# Altium integrated library Res-SMD_V2.IntLib: 2369 symbols (part 6 of 18)
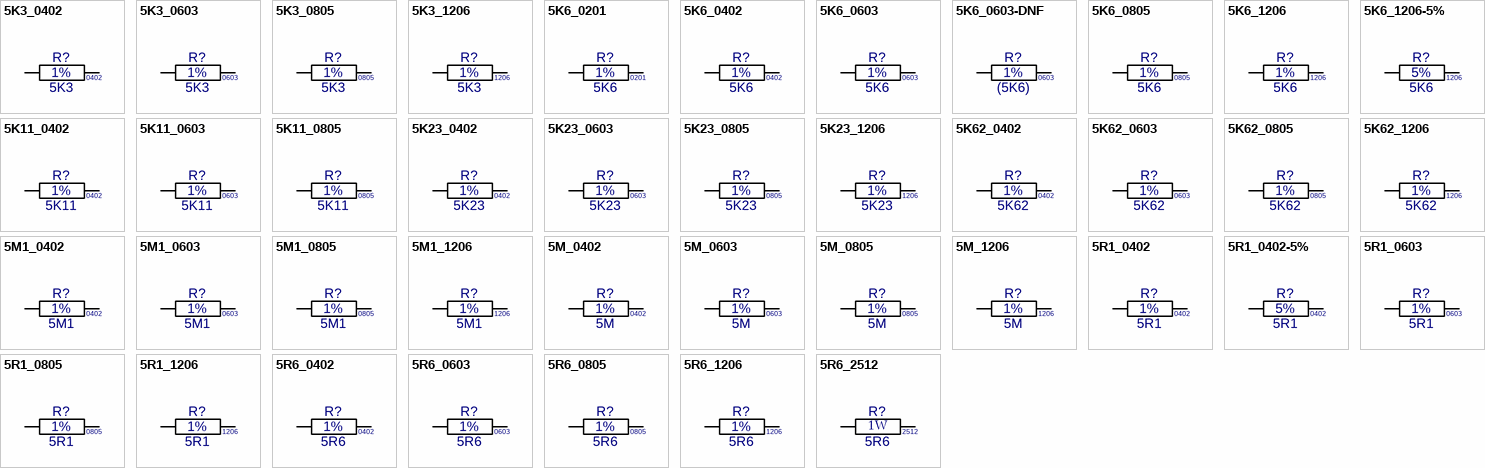
[diagram p64: symbols 5K3_0402 to 5R6_2512]

## 5M_0805
designator R?, comment value 5M  Tol: 1%  Text1: 0805  (hidden comment: 5M_R0805_1%)
Resistor Chip SMD; Manufacturer: Various; Part Number: 5M 0805 1%; Watt: 125mW; Package: RESC0805X65N; EDM-PN: *; Text2: *; Reutech PN: *; SAAB PN: *; DCE Part No: *
footprint RESC0805X65N (Chip Resistor, 0805, 2-Leads, Body 2.0x1.3mm, IPC Medium Density)
pins: 1, 2

## 5M_1206
designator R?, comment value 5M  Tol: 1%  Text1: 1206  (hidden comment: 5M_R1206_1%)
Resistor Chip SMD; Manufacturer: Various; Part Number: 5M 1206 1%; Watt: 250mW; Package: RESC1206X71N; EDM-PN: *; Text2: *; Reutech PN: *; SAAB PN: *; DCE Part No: *
footprint RESC1206X71N (Chip Resistor, 1206, 2-Leads, Body 3.2x1.6mm, IPC Medium Density)
pins: 1, 2

## 5R1_0402
designator R?, comment value 5R1  Tol: 1%  Text1: 0402  (hidden comment: 5R1_R0402_1%)
Resistor Chip SMD; Manufacturer: Various; Part Number: 5R1 0402 1%; Watt: 63mW; Package: RESC0402X40N; EDM-PN: *; Text2: *; Reutech PN: *; SAAB PN: *; DCE Part No: *
footprint RESC0402X40N (Chip Resistor, 0402, 2-Leads, Body 1.1x0.5mm, IPC Medium Density)
pins: 1, 2

## 5R1_0402-5%
designator R?, comment value 5R1  Tol: 5%  Text1: 0402  (hidden comment: 5R1_R0402_5%)
Resistor Chip SMD; Manufacturer: Various; Part Number: 5R1 0402 5%; Watt: 63mW; Package: RESC0402X40N; EDM-PN: *; Text2: *; Reutech PN: *; SAAB PN: *; DCE Part No: *
footprint RESC0402X40N (Chip Resistor, 0402, 2-Leads, Body 1.1x0.5mm, IPC Medium Density)
pins: 1, 2

## 5R1_0603
designator R?, comment value 5R1  Tol: 1%  Text1: 0603  (hidden comment: 5R1_R0603_1%)
Resistor Chip SMD; Manufacturer: Various; Part Number: 5R1 0603 1%; Watt: 100mW; Package: RESC0603X60N; EDM-PN: *; Text2: *; Reutech PN: *; SAAB PN: *; DCE Part No: *
footprint RESC0603X60N (Chip Resistor, 0603, 2-Leads, Body 1.6x0.8mm, IPC Medium Density)
pins: 1, 2

## 5R1_0805
designator R?, comment value 5R1  Tol: 1%  Text1: 0805  (hidden comment: 5R1_R0805_1%)
Resistor Chip SMD; Manufacturer: Various; Part Number: 5R1 0805 1%; Watt: 125mW; Package: RESC0805X65N; EDM-PN: *; Text2: *; Reutech PN: *; SAAB PN: *; DCE Part No: *
footprint RESC0805X65N (Chip Resistor, 0805, 2-Leads, Body 2.0x1.3mm, IPC Medium Density)
pins: 1, 2

## 5R1_1206
designator R?, comment value 5R1  Tol: 1%  Text1: 1206  (hidden comment: 5R1_R1206_1%)
Resistor Chip SMD; Manufacturer: Various; Part Number: 5R1 1206 1%; Watt: 250mW; Package: RESC1206X71N; EDM-PN: *; Text2: *; Reutech PN: *; SAAB PN: *; DCE Part No: *
footprint RESC1206X71N (Chip Resistor, 1206, 2-Leads, Body 3.2x1.6mm, IPC Medium Density)
pins: 1, 2

## 5R6_0402
designator R?, comment value 5R6  Tol: 1%  Text1: 0402  (hidden comment: 5R6_R0402_1%)
Resistor Chip SMD; Manufacturer: Various; Part Number: 5R6 0402 1%; Watt: 63mW; Package: RESC0402X40N; EDM-PN: *; Text2: *; Reutech PN: *; SAAB PN: *; DCE Part No: *
footprint RESC0402X40N (Chip Resistor, 0402, 2-Leads, Body 1.1x0.5mm, IPC Medium Density)
pins: 1, 2

## 5R6_0603
designator R?, comment value 5R6  Tol: 1%  Text1: 0603  (hidden comment: 5R6_R0603_1%)
Resistor Chip SMD; Manufacturer: Various; Part Number: 5R6 0603 1%; Watt: 100mW; Package: RESC0603X60N; EDM-PN: *; Text2: *; Reutech PN: *; SAAB PN: *; DCE Part No: *
footprint RESC0603X60N (Chip Resistor, 0603, 2-Leads, Body 1.6x0.8mm, IPC Medium Density)
pins: 1, 2

## 5R6_0805
designator R?, comment value 5R6  Tol: 1%  Text1: 0805  (hidden comment: 5R6_R0805_1%)
Resistor Chip SMD; Manufacturer: Various; Part Number: 5R6 0805 1%; Watt: 125mW; Package: RESC0805X65N; EDM-PN: *; Text2: *; Reutech PN: *; SAAB PN: *; DCE Part No: *
footprint RESC0805X65N (Chip Resistor, 0805, 2-Leads, Body 2.0x1.3mm, IPC Medium Density)
pins: 1, 2

## 5R6_1206
designator R?, comment value 5R6  Tol: 1%  Text1: 1206  (hidden comment: 5R6_R1206_1%)
Resistor Chip SMD; Manufacturer: Various; Part Number: 5R6 1206 1%; Watt: 250mW; Package: RESC1206X71N; EDM-PN: *; Text2: *; Reutech PN: *; SAAB PN: *; DCE Part No: *
footprint RESC1206X71N (Chip Resistor, 1206, 2-Leads, Body 3.2x1.6mm, IPC Medium Density)
pins: 1, 2

## 5R6_2512
designator R?, comment value 5R6  Watt: 1W  Text1: 2512  (hidden comment: 5R6_R2512_1%)
Resistor Chip SMD; Manufacturer: Various; Part Number: 5R6 2512 1%; EDM-PN: RES1077; Tol: 1%; Package: RESC2512X71N; Text2: *; Reutech PN: *; SAAB PN: *; DCE Part No: *
footprint RESC2512X71N (Chip Resistor, 2512, 2-Leads, Body 6.3x3.2mm, IPC Medium Density)
pins: 1, 2

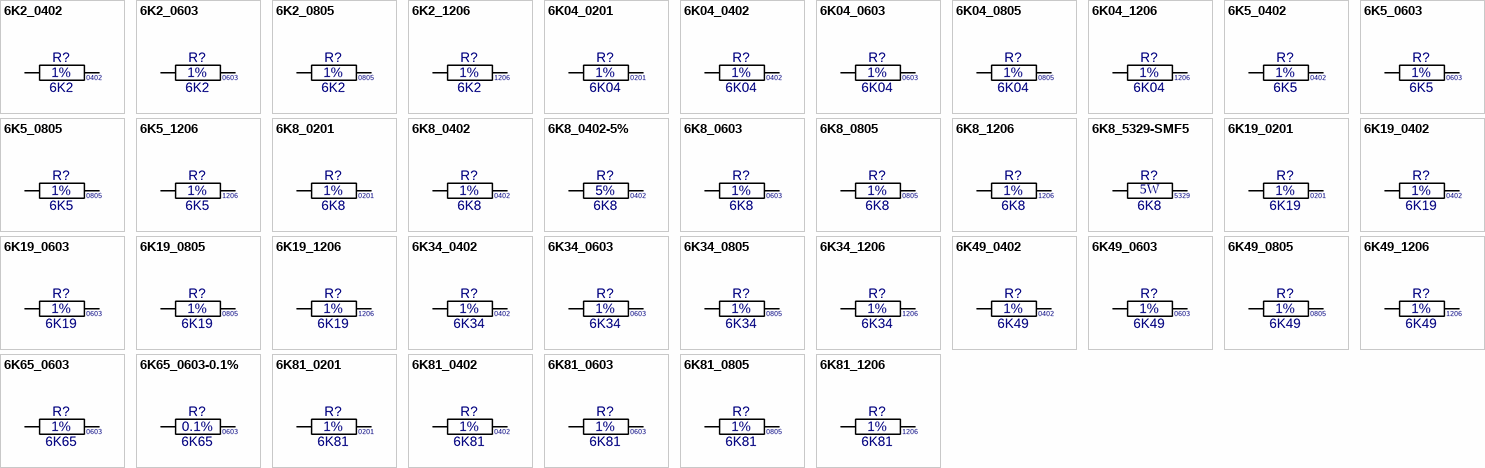
[diagram p17: symbols 6K2_0402 to 6K81_1206]

## 6K2_0402
designator R?, comment value 6K2  Tol: 1%  Text1: 0402  (hidden comment: 6K2_R0402_1%)
Resistor Chip SMD; Manufacturer: Various; Part Number: 6K2 0402 1%; Watt: 63mW; EDM-PN: RES1496; Package: RESC0402X40N; Text2: *; Reutech PN: *; SAAB PN: *; DCE Part No: *
footprint RESC0402X40N (Chip Resistor, 0402, 2-Leads, Body 1.1x0.5mm, IPC Medium Density)
pins: 1, 2

## 6K2_0603
designator R?, comment value 6K2  Tol: 1%  Text1: 0603  (hidden comment: 6K2_R0603_1%)
Resistor Chip SMD; Manufacturer: Various; Part Number: 6K2 0603 1%; Watt: 100mW; EDM-PN: RES601; Package: RESC0603X60N; Text2: *; Reutech PN: 5905-93-6201; SAAB PN: *; DCE Part No: *
footprint RESC0603X60N (Chip Resistor, 0603, 2-Leads, Body 1.6x0.8mm, IPC Medium Density)
pins: 1, 2

## 6K2_0805
designator R?, comment value 6K2  Tol: 1%  Text1: 0805  (hidden comment: 6K2_R0805_1%)
Resistor Chip SMD; Manufacturer: Various; Part Number: 6K2 0805 1%; Watt: 125mW; EDM-PN: RES821; Package: RESC0805X65N; Text2: *; Reutech PN: *; SAAB PN: *; DCE Part No: *
footprint RESC0805X65N (Chip Resistor, 0805, 2-Leads, Body 2.0x1.3mm, IPC Medium Density)
pins: 1, 2

## 6K2_1206
designator R?, comment value 6K2  Tol: 1%  Text1: 1206  (hidden comment: 6K2_R1206_1%)
Resistor Chip SMD; Manufacturer: Various; Part Number: 6K2 1206 1%; Watt: 250mW; Package: RESC1206X71N; EDM-PN: *; Text2: *; Reutech PN: 5905-97-6201; SAAB PN: *; DCE Part No: *
footprint RESC1206X71N (Chip Resistor, 1206, 2-Leads, Body 3.2x1.6mm, IPC Medium Density)
pins: 1, 2

## 6K04_0201
designator R?, comment value 6K04  Tol: 1%  Text1: 0201  (hidden comment: 6K04_R0201_1%)
Resistor Chip SMD; Manufacturer: Various; Part Number: 6K04 0201 1%; Watt: 31mW; Package: RESC0201X33N; EDM-PN: *; Text2: *; Reutech PN: *; SAAB PN: *; DCE Part No: *
footprint RESC0201X33N (Chip Resistor, 0201, 2-Leads, Body 0.6x0.3mm, IPC Medium Density)
pins: 1, 2

## 6K04_0402
designator R?, comment value 6K04  Tol: 1%  Text1: 0402  (hidden comment: 6K04_R0402_1%)
Resistor Chip SMD; Manufacturer: Various; Part Number: 6K04 0402 1%; Watt: 63mW; EDM-PN: RES1429; Package: RESC0402X40N; Text2: *; Reutech PN: *; SAAB PN: *; DCE Part No: *
footprint RESC0402X40N (Chip Resistor, 0402, 2-Leads, Body 1.1x0.5mm, IPC Medium Density)
pins: 1, 2

## 6K04_0603
designator R?, comment value 6K04  Tol: 1%  Text1: 0603  (hidden comment: 6K04_R0603_1%)
Resistor Chip SMD; Manufacturer: Various; Part Number: 6K04 0603 1%; Watt: 100mW; EDM-PN: RES1400; Package: RESC0603X60N; Text2: *; Reutech PN: *; SAAB PN: *; DCE Part No: *
footprint RESC0603X60N (Chip Resistor, 0603, 2-Leads, Body 1.6x0.8mm, IPC Medium Density)
pins: 1, 2

## 6K04_0805
designator R?, comment value 6K04  Tol: 1%  Text1: 0805  (hidden comment: 6K04_R0805_1%)
Resistor Chip SMD; Manufacturer: Various; Part Number: 6K04 0805 1%; Watt: 125mW; Package: RESC0805X65N; EDM-PN: *; Text2: *; Reutech PN: *; SAAB PN: *; DCE Part No: *
footprint RESC0805X65N (Chip Resistor, 0805, 2-Leads, Body 2.0x1.3mm, IPC Medium Density)
pins: 1, 2

## 6K04_1206
designator R?, comment value 6K04  Tol: 1%  Text1: 1206  (hidden comment: 6K04_R1206_1%)
Resistor Chip SMD; Manufacturer: Various; Part Number: 6K04 1206 1%; Watt: 250mW; Package: RESC1206X71N; EDM-PN: *; Text2: *; Reutech PN: *; SAAB PN: *; DCE Part No: *
footprint RESC1206X71N (Chip Resistor, 1206, 2-Leads, Body 3.2x1.6mm, IPC Medium Density)
pins: 1, 2

## 6K5_0402
designator R?, comment value 6K5  Tol: 1%  Text1: 0402  (hidden comment: 6K5_R0402_1%)
Resistor Chip SMD; Manufacturer: Various; Part Number: 6K5 0402 1%; Watt: 63mW; Package: RESC0402X40N; EDM-PN: *; Text2: *; Reutech PN: *; SAAB PN: *; DCE Part No: *
footprint RESC0402X40N (Chip Resistor, 0402, 2-Leads, Body 1.1x0.5mm, IPC Medium Density)
pins: 1, 2

## 6K5_0603
designator R?, comment value 6K5  Tol: 1%  Text1: 0603  (hidden comment: 6K5_R0603_1%)
Resistor Chip SMD; Manufacturer: Various; Part Number: 6K5 0603 1%; Watt: 100mW; Package: RESC0603X60N; EDM-PN: *; Text2: *; Reutech PN: 5905-93-6501; SAAB PN: *; DCE Part No: *
footprint RESC0603X60N (Chip Resistor, 0603, 2-Leads, Body 1.6x0.8mm, IPC Medium Density)
pins: 1, 2

## 6K5_0805
designator R?, comment value 6K5  Tol: 1%  Text1: 0805  (hidden comment: 6K5_R0805_1%)
Resistor Chip SMD; Manufacturer: Various; Part Number: 6K5 0805 1%; Watt: 125mW; Package: RESC0805X65N; EDM-PN: *; Text2: *; Reutech PN: *; SAAB PN: *; DCE Part No: *
footprint RESC0805X65N (Chip Resistor, 0805, 2-Leads, Body 2.0x1.3mm, IPC Medium Density)
pins: 1, 2

## 6K5_1206
designator R?, comment value 6K5  Tol: 1%  Text1: 1206  (hidden comment: 6K5_R1206_1%)
Resistor Chip SMD; Manufacturer: Various; Part Number: 6K5 1206 1%; Watt: 250mW; Package: RESC1206X71N; EDM-PN: *; Text2: *; Reutech PN: 5905-97-6501; SAAB PN: *; DCE Part No: *
footprint RESC1206X71N (Chip Resistor, 1206, 2-Leads, Body 3.2x1.6mm, IPC Medium Density)
pins: 1, 2

## 6K8_0201
designator R?, comment value 6K8  Tol: 1%  Text1: 0201  (hidden comment: 6K8_R0201_1%)
Resistor Chip SMD; Manufacturer: Various; Part Number: 6K8 0201 1%; Watt: 31mW; Package: RESC0201X33N; EDM-PN: *; Text2: *; Reutech PN: *; SAAB PN: *; DCE Part No: *
footprint RESC0201X33N (Chip Resistor, 0201, 2-Leads, Body 0.6x0.3mm, IPC Medium Density)
pins: 1, 2

## 6K8_0402
designator R?, comment value 6K8  Tol: 1%  Text1: 0402  (hidden comment: 6K8_R0402_1%)
Resistor Chip SMD; Manufacturer: Various; Part Number: 6K8 0402 1%; Watt: 63mW; Package: RESC0402X40N; EDM-PN: *; Text2: *; Reutech PN: *; SAAB PN: *; DCE Part No: *
footprint RESC0402X40N (Chip Resistor, 0402, 2-Leads, Body 1.1x0.5mm, IPC Medium Density)
pins: 1, 2

## 6K8_0402-5%
designator R?, comment value 6K8  Tol: 5%  Text1: 0402  (hidden comment: 6K8_R0402_5%)
Resistor Chip SMD; Manufacturer: Various; Part Number: 6K8 0402 5%; Watt: 63mW; Package: RESC0402X40N; EDM-PN: *; Text2: *; Reutech PN: *; SAAB PN: *; DCE Part No: *
footprint RESC0402X40N (Chip Resistor, 0402, 2-Leads, Body 1.1x0.5mm, IPC Medium Density)
pins: 1, 2

## 6K8_0603
designator R?, comment value 6K8  Tol: 1%  Text1: 0603  (hidden comment: 6K8_R0603_1%)
Resistor Chip SMD; Manufacturer: Various; Part Number: 6K8 0603 1%; Watt: 100mW; EDM-PN: RES132; Package: RESC0603X60N; Text2: *; Reutech PN: 5905-93-6801; SAAB PN: *; DCE Part No: *
footprint RESC0603X60N (Chip Resistor, 0603, 2-Leads, Body 1.6x0.8mm, IPC Medium Density)
pins: 1, 2

## 6K8_0805
designator R?, comment value 6K8  Tol: 1%  Text1: 0805  (hidden comment: 6K8_R0805_1%)
Resistor Chip SMD; Manufacturer: Various; Part Number: 6K8 0805 1%; Watt: 125mW; Package: RESC0805X65N; EDM-PN: *; Text2: *; Reutech PN: *; SAAB PN: *; DCE Part No: *
footprint RESC0805X65N (Chip Resistor, 0805, 2-Leads, Body 2.0x1.3mm, IPC Medium Density)
pins: 1, 2

## 6K8_1206
designator R?, comment value 6K8  Tol: 1%  Text1: 1206  (hidden comment: 6K8_R1206_1%)
Resistor Chip SMD; Manufacturer: Various; Part Number: 6K8 1206 1%; Watt: 250mW; Package: RESC1206X71N; EDM-PN: *; Text2: *; Reutech PN: 5905-97-6801; SAAB PN: *; DCE Part No: *
footprint RESC1206X71N (Chip Resistor, 1206, 2-Leads, Body 3.2x1.6mm, IPC Medium Density)
pins: 1, 2

## 6K8_5329-SMF5
designator R?, comment value 6K8  Watt: 5W  Text1: 5329  (hidden comment: SMF56K8JT)
Resistor Power 5W Metal Film; Manufacturer: Various; Tol: 5%; Part Number: SMF56K8JT; Package: RESC2512X71N; EDM-PN: *; Text2: *; Reutech PN: *; SAAB PN: *; DCE Part No: *
footprint RES-SM_5 (RES-SM_5 13.5x7.3mm)
pins: 1, 2

## 6K19_0201
designator R?, comment value 6K19  Tol: 1%  Text1: 0201  (hidden comment: 6K19_R0201_1%)
Resistor Chip SMD; Manufacturer: Various; Part Number: 6K19 0201 1%; Watt: 31mW; Package: RESC0201X33N; EDM-PN: *; Text2: *; Reutech PN: *; SAAB PN: *; DCE Part No: *
footprint RESC0201X33N (Chip Resistor, 0201, 2-Leads, Body 0.6x0.3mm, IPC Medium Density)
pins: 1, 2

## 6K19_0402
designator R?, comment value 6K19  Tol: 1%  Text1: 0402  (hidden comment: 6K19_R0402_1%)
Resistor Chip SMD; Manufacturer: Various; Part Number: 6K19 0402 1%; Watt: 63mW; Package: RESC0402X40N; EDM-PN: *; Text2: *; Reutech PN: *; SAAB PN: *; DCE Part No: *
footprint RESC0402X40N (Chip Resistor, 0402, 2-Leads, Body 1.1x0.5mm, IPC Medium Density)
pins: 1, 2

## 6K19_0603
designator R?, comment value 6K19  Tol: 1%  Text1: 0603  (hidden comment: 6K19_R0603_1%)
Resistor Chip SMD; Manufacturer: Various; Part Number: 6K19 0603 1%; Watt: 100mW; Reutech PN: 5905-93-; Package: RESC0603X60N; EDM-PN: *; Text2: *; SAAB PN: *; DCE Part No: *
footprint RESC0603X60N (Chip Resistor, 0603, 2-Leads, Body 1.6x0.8mm, IPC Medium Density)
pins: 1, 2

## 6K19_0805
designator R?, comment value 6K19  Tol: 1%  Text1: 0805  (hidden comment: 6K19_R0805_1%)
Resistor Chip SMD; Manufacturer: Various; Part Number: 6K19 0805 1%; Watt: 125mW; Package: RESC0805X65N; EDM-PN: *; Text2: *; Reutech PN: *; SAAB PN: *; DCE Part No: *
footprint RESC0805X65N (Chip Resistor, 0805, 2-Leads, Body 2.0x1.3mm, IPC Medium Density)
pins: 1, 2

## 6K19_1206
designator R?, comment value 6K19  Tol: 1%  Text1: 1206  (hidden comment: 6K19_R1206_1%)
Resistor Chip SMD; Manufacturer: Various; Part Number: 6K19 1206 1%; Watt: 250mW; Reutech PN: 5905-97-; Package: RESC1206X71N; EDM-PN: *; Text2: *; SAAB PN: *; DCE Part No: *
footprint RESC1206X71N (Chip Resistor, 1206, 2-Leads, Body 3.2x1.6mm, IPC Medium Density)
pins: 1, 2

## 6K34_0402
designator R?, comment value 6K34  Tol: 1%  Text1: 0402  (hidden comment: 6K34_R0402_1%)
Resistor Chip SMD; Manufacturer: Various; Part Number: 6K34 0402 1%; Watt: 63mW; Package: RESC0402X40N; EDM-PN: *; Text2: *; Reutech PN: *; SAAB PN: *; DCE Part No: *
footprint RESC0402X40N (Chip Resistor, 0402, 2-Leads, Body 1.1x0.5mm, IPC Medium Density)
pins: 1, 2

## 6K34_0603
designator R?, comment value 6K34  Tol: 1%  Text1: 0603  (hidden comment: 6K34_R0603_1%)
Resistor Chip SMD; Manufacturer: Various; Part Number: 6K34 0603 1%; Watt: 100mW; Package: RESC0603X60N; EDM-PN: *; Text2: *; Reutech PN: *; SAAB PN: *; DCE Part No: *
footprint RESC0603X60N (Chip Resistor, 0603, 2-Leads, Body 1.6x0.8mm, IPC Medium Density)
pins: 1, 2

## 6K34_0805
designator R?, comment value 6K34  Tol: 1%  Text1: 0805  (hidden comment: 6K34_R0805_1%)
Resistor Chip SMD; Manufacturer: Various; Part Number: 6K34 0805 1%; Watt: 125mW; Package: RESC0805X65N; EDM-PN: *; Text2: *; Reutech PN: *; SAAB PN: *; DCE Part No: *
footprint RESC0805X65N (Chip Resistor, 0805, 2-Leads, Body 2.0x1.3mm, IPC Medium Density)
pins: 1, 2

## 6K34_1206
designator R?, comment value 6K34  Tol: 1%  Text1: 1206  (hidden comment: 6K34_R1206_1%)
Resistor Chip SMD; Manufacturer: Various; Part Number: 6K34 1206 1%; Watt: 250mW; Package: RESC1206X71N; EDM-PN: *; Text2: *; Reutech PN: *; SAAB PN: *; DCE Part No: *
footprint RESC1206X71N (Chip Resistor, 1206, 2-Leads, Body 3.2x1.6mm, IPC Medium Density)
pins: 1, 2

## 6K49_0402
designator R?, comment value 6K49  Tol: 1%  Text1: 0402  (hidden comment: 6K49_R0402_1%)
Resistor Chip SMD; Manufacturer: Various; Part Number: 6K49 0402 1%; Watt: 63mW; Package: RESC0402X40N; EDM-PN: *; Text2: *; Reutech PN: *; SAAB PN: *; DCE Part No: *
footprint RESC0402X40N (Chip Resistor, 0402, 2-Leads, Body 1.1x0.5mm, IPC Medium Density)
pins: 1, 2

## 6K49_0603
designator R?, comment value 6K49  Tol: 1%  Text1: 0603  (hidden comment: 6K49_R0603_1%)
Resistor Chip SMD; Manufacturer: Various; Part Number: 6K49 0603 1%; Watt: 100mW; Package: RESC0603X60N; EDM-PN: *; Text2: *; Reutech PN: *; SAAB PN: *; DCE Part No: *
footprint RESC0603X60N (Chip Resistor, 0603, 2-Leads, Body 1.6x0.8mm, IPC Medium Density)
pins: 1, 2

## 6K49_0805
designator R?, comment value 6K49  Tol: 1%  Text1: 0805  (hidden comment: 6K49_R0805_1%)
Resistor Chip SMD; Manufacturer: Various; Part Number: 6K49 0805 1%; Watt: 125mW; Package: RESC0805X65N; EDM-PN: *; Text2: *; Reutech PN: *; SAAB PN: *; DCE Part No: *
footprint RESC0805X65N (Chip Resistor, 0805, 2-Leads, Body 2.0x1.3mm, IPC Medium Density)
pins: 1, 2

## 6K49_1206
designator R?, comment value 6K49  Tol: 1%  Text1: 1206  (hidden comment: 6K49_R1206_1%)
Resistor Chip SMD; Manufacturer: Various; Part Number: 6K49 1206 1%; Watt: 250mW; Package: RESC1206X71N; EDM-PN: *; Text2: *; Reutech PN: *; SAAB PN: *; DCE Part No: *
footprint RESC1206X71N (Chip Resistor, 1206, 2-Leads, Body 3.2x1.6mm, IPC Medium Density)
pins: 1, 2

## 6K65_0603
designator R?, comment value 6K65  Tol: 1%  Text1: 0603  (hidden comment: 6K65_R0603_1%)
Resistor Chip SMD; Manufacturer: Various; Part Number: 6K65 0603 1%; Watt: 100mW; Package: RESC0603X60N; EDM-PN: *; Text2: *; Reutech PN: *; SAAB PN: *; DCE Part No: *
footprint RESC0603X60N (Chip Resistor, 0603, 2-Leads, Body 1.6x0.8mm, IPC Medium Density)
pins: 1, 2

## 6K65_0603-0.1%
designator R?, comment value 6K65  Tol: 0.1%  Text1: 0603  (hidden comment: 6K65_R0603_0.1%)
Resistor Chip SMD; Manufacturer: Various; Part Number: 6K65 0603 0.1%; Watt: 100mW; Package: RESC0603X60N; EDM-PN: *; Text2: *; Reutech PN: *; SAAB PN: *; DCE Part No: *
footprint RESC0603X60N (Chip Resistor, 0603, 2-Leads, Body 1.6x0.8mm, IPC Medium Density)
pins: 1, 2

## 6K81_0201
designator R?, comment value 6K81  Tol: 1%  Text1: 0201  (hidden comment: 6K81_R0201_1%)
Resistor Chip SMD; Manufacturer: Various; Part Number: 6K81 0201 1%; Watt: 31mW; Package: RESC0201X33N; EDM-PN: *; Text2: *; Reutech PN: *; SAAB PN: *; DCE Part No: *
footprint RESC0201X33N (Chip Resistor, 0201, 2-Leads, Body 0.6x0.3mm, IPC Medium Density)
pins: 1, 2

## 6K81_0402
designator R?, comment value 6K81  Tol: 1%  Text1: 0402  (hidden comment: 6K81_R0402_1%)
Resistor Chip SMD; Manufacturer: Various; Part Number: 6K81 0402 1%; Watt: 63mW; Package: RESC0402X40N; EDM-PN: *; Text2: *; Reutech PN: *; SAAB PN: *; DCE Part No: *
footprint RESC0402X40N (Chip Resistor, 0402, 2-Leads, Body 1.1x0.5mm, IPC Medium Density)
pins: 1, 2

## 6K81_0603
designator R?, comment value 6K81  Tol: 1%  Text1: 0603  (hidden comment: 6K81_R0603_1%)
Resistor Chip SMD; Manufacturer: Various; Part Number: 6K81 0603 1%; Watt: 100mW; Reutech PN: 5905-93-; Package: RESC0603X60N; EDM-PN: *; Text2: *; SAAB PN: *; DCE Part No: *
footprint RESC0603X60N (Chip Resistor, 0603, 2-Leads, Body 1.6x0.8mm, IPC Medium Density)
pins: 1, 2

## 6K81_0805
designator R?, comment value 6K81  Tol: 1%  Text1: 0805  (hidden comment: 6K81_R0805_1%)
Resistor Chip SMD; Manufacturer: Various; Part Number: 6K81 0805 1%; Watt: 125mW; Package: RESC0805X65N; EDM-PN: *; Text2: *; Reutech PN: *; SAAB PN: *; DCE Part No: *
footprint RESC0805X65N (Chip Resistor, 0805, 2-Leads, Body 2.0x1.3mm, IPC Medium Density)
pins: 1, 2

## 6K81_1206
designator R?, comment value 6K81  Tol: 1%  Text1: 1206  (hidden comment: 6K81_R1206_1%)
Resistor Chip SMD; Manufacturer: Various; Part Number: 6K81 1206 1%; Watt: 250mW; Reutech PN: 5905-97-; Package: RESC1206X71N; EDM-PN: *; Text2: *; SAAB PN: *; DCE Part No: *
footprint RESC1206X71N (Chip Resistor, 1206, 2-Leads, Body 3.2x1.6mm, IPC Medium Density)
pins: 1, 2

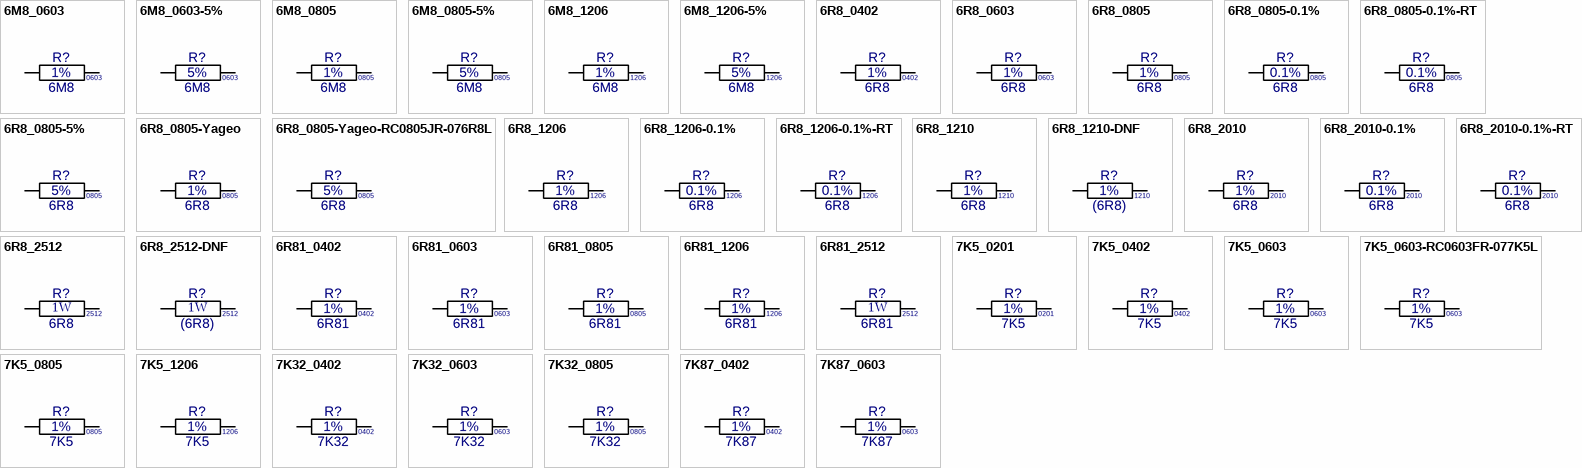
[diagram p18: symbols 6M8_0603 to 7K87_0603]

## 6M8_0603
designator R?, comment value 6M8  Tol: 1%  Text1: 0603  (hidden comment: 6M8_R0603_1%)
Resistor Chip SMD; Manufacturer: Various; Part Number: 6M8 0603 1%; Watt: 100mW; Package: RESC0603X60N; EDM-PN: *; Text2: *; Reutech PN: *; SAAB PN: *; DCE Part No: *
footprint RESC0603X60N (Chip Resistor, 0603, 2-Leads, Body 1.6x0.8mm, IPC Medium Density)
pins: 1, 2

## 6M8_0603-5%
designator R?, comment value 6M8  Tol: 5%  Text1: 0603  (hidden comment: 6M8_R0603_5%)
Resistor Chip SMD; Manufacturer: Various; Part Number: 6M8 0603 5%; Watt: 100mW; Package: RESC0603X60N; EDM-PN: *; Text2: *; Reutech PN: *; SAAB PN: *; DCE Part No: *
footprint RESC0603X60N (Chip Resistor, 0603, 2-Leads, Body 1.6x0.8mm, IPC Medium Density)
pins: 1, 2

## 6M8_0805
designator R?, comment value 6M8  Tol: 1%  Text1: 0805  (hidden comment: 6M8_R0805_1%)
Resistor Chip SMD; Manufacturer: Various; Part Number: 6M8 0805 1%; Watt: 125mW; Package: RESC0805X65N; EDM-PN: *; Text2: *; Reutech PN: *; SAAB PN: *; DCE Part No: *
footprint RESC0805X65N (Chip Resistor, 0805, 2-Leads, Body 2.0x1.3mm, IPC Medium Density)
pins: 1, 2

## 6M8_0805-5%
designator R?, comment value 6M8  Tol: 5%  Text1: 0805  (hidden comment: 6M8_R0805_5%)
Resistor Chip SMD; Manufacturer: Various; Part Number: 6M8 0805 5%; Watt: 125mW; Package: RESC0805X65N; EDM-PN: *; Text2: *; Reutech PN: *; SAAB PN: *; DCE Part No: *
footprint RESC0805X65N (Chip Resistor, 0805, 2-Leads, Body 2.0x1.3mm, IPC Medium Density)
pins: 1, 2

## 6M8_1206
designator R?, comment value 6M8  Tol: 1%  Text1: 1206  (hidden comment: 6M8_R1206_1%)
Resistor Chip SMD; Manufacturer: Various; Part Number: 6M8 1206 1%; Watt: 250mW; Package: RESC1206X71N; EDM-PN: *; Text2: *; Reutech PN: *; SAAB PN: *; DCE Part No: *
footprint RESC1206X71N (Chip Resistor, 1206, 2-Leads, Body 3.2x1.6mm, IPC Medium Density)
pins: 1, 2

## 6M8_1206-5%
designator R?, comment value 6M8  Tol: 5%  Text1: 1206  (hidden comment: 6M8_R1206_5%)
Resistor Chip SMD; Manufacturer: Various; Part Number: 6M8 1206 5%; Watt: 250mW; Package: RESC1206X71N; EDM-PN: *; Text2: *; Reutech PN: *; SAAB PN: *; DCE Part No: *
footprint RESC1206X71N (Chip Resistor, 1206, 2-Leads, Body 3.2x1.6mm, IPC Medium Density)
pins: 1, 2

## 6R8_0402
designator R?, comment value 6R8  Tol: 1%  Text1: 0402  (hidden comment: 6R8_R0402_1%)
Resistor Chip SMD; Manufacturer: Various; Part Number: 6R8 0402 1%; Watt: 63mW; Package: RESC0402X40N; EDM-PN: *; Text2: *; Reutech PN: *; SAAB PN: *; DCE Part No: *
footprint RESC0402X40N (Chip Resistor, 0402, 2-Leads, Body 1.1x0.5mm, IPC Medium Density)
pins: 1, 2

## 6R8_0603
designator R?, comment value 6R8  Tol: 1%  Text1: 0603  (hidden comment: 6R8_R0603_1%)
Resistor Chip SMD; Manufacturer: Various; Part Number: 6R8 0603 1%; Watt: 100mW; Package: RESC0603X60N; EDM-PN: *; Text2: *; Reutech PN: *; SAAB PN: *; DCE Part No: *
footprint RESC0603X60N (Chip Resistor, 0603, 2-Leads, Body 1.6x0.8mm, IPC Medium Density)
pins: 1, 2

## 6R8_0805
designator R?, comment value 6R8  Tol: 1%  Text1: 0805  (hidden comment: 6R8_R0805_1%)
Resistor Chip SMD; Manufacturer: Various; Part Number: 6R8 0805 1%; Watt: 125mW; Package: RESC0805X65N; EDM-PN: *; Text2: *; Reutech PN: *; SAAB PN: *; DCE Part No: *
footprint RESC0805X65N (Chip Resistor, 0805, 2-Leads, Body 2.0x1.3mm, IPC Medium Density)
pins: 1, 2

## 6R8_0805-0.1%
designator R?, comment value 6R8  Tol: 0.1%  Text1: 0805  (hidden comment: 6R8_R0805_0.1%)
Resistor Chip SMD; Manufacturer: Various; Part Number: 6R8 0805 0.1%; Watt: 125mW; Package: RESC0805X65N; EDM-PN: *; Text2: *; Reutech PN: *; SAAB PN: *; DCE Part No: *
footprint RESC0805X65N (Chip Resistor, 0805, 2-Leads, Body 2.0x1.3mm, IPC Medium Density)
pins: 1, 2

## 6R8_0805-0.1%-RT
designator R?, comment value 6R8  Tol: 0.1%  Text1: 0805  (hidden comment: 6R8_R0805_0.1%-RT)
Resistor Chip SMD; Manufacturer: Jageo; Part Number: RT0805BRE076R8L; Watt: 125mW; Package: RESC0805X65N; EDM-PN: *; Text2: *; Reutech PN: *; SAAB PN: *; DCE Part No: *
footprint RESC0805X65N (Chip Resistor, 0805, 2-Leads, Body 2.0x1.3mm, IPC Medium Density)
pins: 1, 2

## 6R8_0805-5%
designator R?, comment value 6R8  Tol: 5%  Text1: 0805  (hidden comment: 6R8_R0805_5%)
Resistor Chip SMD; Manufacturer: Various; Part Number: 6R8 0805 5%; Watt: 125mW; Package: RESC0805X65N; EDM-PN: *; Text2: *; Reutech PN: *; SAAB PN: *; DCE Part No: *
footprint RESC0805X65N (Chip Resistor, 0805, 2-Leads, Body 2.0x1.3mm, IPC Medium Density)
pins: 1, 2

## 6R8_0805-Yageo
designator R?, comment value 6R8  Tol: 1%  Text1: 0805  (hidden comment: 6R8_R0805_1%-Yageo)
Resistor Chip SMD; Manufacturer: Yageo; Part Number: RC0805FR-076R8L; Watt: 125mW; Package: RESC0805X65N; EDM-PN: *; Text2: *; Reutech PN: *; SAAB PN: *; DCE Part No: *
footprint RESC0805X65N (Chip Resistor, 0805, 2-Leads, Body 2.0x1.3mm, IPC Medium Density)
pins: 1, 2

## 6R8_0805-Yageo-RC0805JR-076R8L
designator R?, comment value 6R8  Tol: 5%  Text1: 0805  (hidden comment: RC0805JR-076R8L)
Resistor Thick Film; Manufacturer: Yageo; Watt: 125mW; Part Number: RC0805JR-076R8L; Package: RESC0805X65N; EDM-PN: *; Text2: *; Reutech PN: *; SAAB PN: *; DCE Part No: *
footprint RESC0805X65N (Chip Resistor, 0805, 2-Leads, Body 2.0x1.3mm, IPC Medium Density)
pins: 1, 2

## 6R8_1206
designator R?, comment value 6R8  Tol: 1%  Text1: 1206  (hidden comment: 6R8_R1206_1%)
Resistor Chip SMD; Manufacturer: Various; Part Number: 6R8 1206 1%; Watt: 250mW; Package: RESC1206X71N; EDM-PN: *; Text2: *; Reutech PN: *; SAAB PN: *; DCE Part No: *
footprint RESC1206X71N (Chip Resistor, 1206, 2-Leads, Body 3.2x1.6mm, IPC Medium Density)
pins: 1, 2

## 6R8_1206-0.1%
designator R?, comment value 6R8  Tol: 0.1%  Text1: 1206  (hidden comment: 6R8_R1206_0.1%)
Resistor Chip SMD; Manufacturer: Various; Part Number: 6R8 1206 0.1%; Watt: 250mW; Package: RESC1206X71N; EDM-PN: *; Text2: *; Reutech PN: *; SAAB PN: *; DCE Part No: *
footprint RESC1206X71N (Chip Resistor, 1206, 2-Leads, Body 3.2x1.6mm, IPC Medium Density)
pins: 1, 2

## 6R8_1206-0.1%-RT
designator R?, comment value 6R8  Tol: 0.1%  Text1: 1206  (hidden comment: 6R8_R1206_0.1%-RT)
Resistor Chip SMD; Manufacturer: Yageo; Part Number: RT1206BRE076R8L; Watt: 250mW; Package: RESC1206X71N; EDM-PN: *; Text2: *; Reutech PN: *; SAAB PN: *; DCE Part No: *
footprint RESC1206X71N (Chip Resistor, 1206, 2-Leads, Body 3.2x1.6mm, IPC Medium Density)
pins: 1, 2

## 6R8_1210
designator R?, comment value 6R8  Tol: 1%  Text1: 1210  (hidden comment: 6R8_R1210_1%)
Resistor Chip SMD; Manufacturer: Various; Part Number: 6R8 1210 1%; Watt: 500mW; Package: RESC1210X71N; EDM-PN: *; Text2: *; Reutech PN: *; SAAB PN: *; DCE Part No: *
footprint RESC1210X71N (Chip Resistor, 1210, 2-Leads, Body 3.2x2.5mm, IPC Medium Density)
pins: 1, 2

## 6R8_1210-DNF
designator R?, comment value (6R8)  Tol: 1%  Text1: 1210  (hidden comment: 6R8_R1210_1%-DNF)
Resistor Chip SMD - Do not Fit; Manufacturer: Various; Part Number: DNF - 6R8 1210 1%; Watt: 500mW; Package: RESC1210X71N; EDM-PN: *; Text2: *; Reutech PN: *; SAAB PN: *; DCE Part No: *
footprint RESC1210X71N (Chip Resistor, 1210, 2-Leads, Body 3.2x2.5mm, IPC Medium Density)
pins: 1, 2

## 6R8_2010
designator R?, comment value 6R8  Tol: 1%  Text1: 2010  (hidden comment: 6R8_R2010_1%)
Resistor Chip SMD; Manufacturer: Various; Part Number: 6R8 2010 1%; Watt: 500mW; Package: RESC2010X71N; EDM-PN: *; Text2: *; Reutech PN: *; SAAB PN: *; DCE Part No: *
footprint RESC2010X71N (Chip Resistor, 2010, 2-Leads, Body 5.0x2.5mm, IPC Medium Density)
pins: 1, 2

## 6R8_2010-0.1%
designator R?, comment value 6R8  Tol: 0.1%  Text1: 2010  (hidden comment: 6R8_R2010_0.1%)
Resistor Chip SMD; Manufacturer: Various; Part Number: 6R8 2010 0.1%; Watt: 500mW; Package: RESC2010X71N; EDM-PN: *; Text2: *; Reutech PN: *; SAAB PN: *; DCE Part No: *
footprint RESC2010X71N (Chip Resistor, 2010, 2-Leads, Body 5.0x2.5mm, IPC Medium Density)
pins: 1, 2

## 6R8_2010-0.1%-RT
designator R?, comment value 6R8  Tol: 0.1%  Text1: 2010  (hidden comment: 6R8_R2010_0.1%-RT)
Resistor Chip SMD; Manufacturer: Yageo; Part Number: RT2010BRE076R8L; Watt: 500mW; Package: RESC2010X71N; EDM-PN: *; Text2: *; Reutech PN: *; SAAB PN: *; DCE Part No: *
footprint RESC2010X71N (Chip Resistor, 2010, 2-Leads, Body 5.0x2.5mm, IPC Medium Density)
pins: 1, 2

## 6R8_2512
designator R?, comment value 6R8  Watt: 1W  Text1: 2512  (hidden comment: 6R8_R2512_1%)
Resistor Chip SMD; Manufacturer: Various; Part Number: 6R8 2512 1%; Tol: 1%; Package: RESC2512X71N; EDM-PN: *; Text2: *; Reutech PN: *; SAAB PN: *; DCE Part No: *
footprint RESC2512X71N (Chip Resistor, 2512, 2-Leads, Body 6.3x3.2mm, IPC Medium Density)
pins: 1, 2

## 6R8_2512-DNF
designator R?, comment value (6R8)  Watt: 1W  Text1: 2512  (hidden comment: 6R8_R2512_1%-DNF)
Resistor Chip SMD - Do not Fit; Manufacturer: Various; Part Number: DNF - 6R8 2512 1%; Tol: 1%; Package: RESC2512X71N; EDM-PN: *; Text2: *; Reutech PN: *; SAAB PN: *; DCE Part No: *
footprint RESC2512X71N (Chip Resistor, 2512, 2-Leads, Body 6.3x3.2mm, IPC Medium Density)
pins: 1, 2

## 6R81_0402
designator R?, comment value 6R81  Tol: 1%  Text1: 0402  (hidden comment: 6R81_R0402_1%)
Resistor Chip SMD; Manufacturer: Various; Part Number: 6R81 0402 1%; Watt: 63mW; Package: RESC0402X40N; EDM-PN: *; Text2: *; Reutech PN: *; SAAB PN: *; DCE Part No: *
footprint RESC0402X40N (Chip Resistor, 0402, 2-Leads, Body 1.1x0.5mm, IPC Medium Density)
pins: 1, 2

## 6R81_0603
designator R?, comment value 6R81  Tol: 1%  Text1: 0603  (hidden comment: 6R81_R0603_1%)
Resistor Chip SMD; Manufacturer: Various; Part Number: 6R81 0603 1%; Watt: 100mW; Package: RESC0603X60N; EDM-PN: *; Text2: *; Reutech PN: *; SAAB PN: *; DCE Part No: *
footprint RESC0603X60N (Chip Resistor, 0603, 2-Leads, Body 1.6x0.8mm, IPC Medium Density)
pins: 1, 2

## 6R81_0805
designator R?, comment value 6R81  Tol: 1%  Text1: 0805  (hidden comment: 6R81_R0805_1%)
Resistor Chip SMD; Manufacturer: Various; Part Number: 6R81 0805 1%; Watt: 125mW; Package: RESC0805X65N; EDM-PN: *; Text2: *; Reutech PN: *; SAAB PN: *; DCE Part No: *
footprint RESC0805X65N (Chip Resistor, 0805, 2-Leads, Body 2.0x1.3mm, IPC Medium Density)
pins: 1, 2

## 6R81_1206
designator R?, comment value 6R81  Tol: 1%  Text1: 1206  (hidden comment: 6R81_R1206_1%)
Resistor Chip SMD; Manufacturer: Various; Part Number: 6R81 1206 1%; Watt: 250mW; Package: RESC1206X71N; EDM-PN: *; Text2: *; Reutech PN: *; SAAB PN: *; DCE Part No: *
footprint RESC1206X71N (Chip Resistor, 1206, 2-Leads, Body 3.2x1.6mm, IPC Medium Density)
pins: 1, 2

## 6R81_2512
designator R?, comment value 6R81  Watt: 1W  Text1: 2512  (hidden comment: 6R81_R2512_1%)
Resistor Chip SMD; Manufacturer: Various; Part Number: 6R81 2512 1%; Tol: 1%; Package: RESC2512X71N; EDM-PN: *; Text2: *; Reutech PN: *; SAAB PN: *; DCE Part No: *
footprint RESC2512X71N (Chip Resistor, 2512, 2-Leads, Body 6.3x3.2mm, IPC Medium Density)
pins: 1, 2

## 7K5_0201
designator R?, comment value 7K5  Tol: 1%  Text1: 0201  (hidden comment: 7K5_R0201_1%)
Resistor Chip SMD; Manufacturer: Various; Part Number: 7K5 0201 1%; Watt: 31mW; Package: RESC0201X33N; EDM-PN: *; Text2: *; Reutech PN: *; SAAB PN: *; DCE Part No: *
footprint RESC0201X33N (Chip Resistor, 0201, 2-Leads, Body 0.6x0.3mm, IPC Medium Density)
pins: 1, 2

## 7K5_0402
designator R?, comment value 7K5  Tol: 1%  Text1: 0402  (hidden comment: 7K5_R0402_1%)
Resistor Chip SMD; Manufacturer: Various; Part Number: 7K5 0402 1%; Watt: 63mW; Package: RESC0402X40N; EDM-PN: *; Text2: *; Reutech PN: *; SAAB PN: *; DCE Part No: *
footprint RESC0402X40N (Chip Resistor, 0402, 2-Leads, Body 1.1x0.5mm, IPC Medium Density)
pins: 1, 2

## 7K5_0603
designator R?, comment value 7K5  Tol: 1%  Text1: 0603  (hidden comment: 7K5_R0603_1%)
Resistor Chip SMD; Manufacturer: Various; Part Number: 7K5 0603 1%; Watt: 100mW; Package: RESC0603X60N; EDM-PN: *; Text2: *; Reutech PN: *; SAAB PN: *; DCE Part No: *
footprint RESC0603X60N (Chip Resistor, 0603, 2-Leads, Body 1.6x0.8mm, IPC Medium Density)
pins: 1, 2

## 7K5_0603-RC0603FR-077K5L
designator R?, comment value 7K5  Tol: 1%  Text1: 0603  (hidden comment: RC0603FR-077K5L)
Resistor Chip SMD; Manufacturer: Yageo; Watt: 100mW; Part Number: RC0603FR-077K5L; Package: RESC0603X60N; EDM-PN: *; Text2: *; Reutech PN: *; SAAB PN: *; DCE Part No: *
footprint RESC0603X60N (Chip Resistor, 0603, 2-Leads, Body 1.6x0.8mm, IPC Medium Density)
pins: 1, 2

## 7K5_0805
designator R?, comment value 7K5  Tol: 1%  Text1: 0805  (hidden comment: 7K5_R0805_1%)
Resistor Chip SMD; Manufacturer: Various; Part Number: 7K5 0805 1%; Watt: 125mW; Package: RESC0805X65N; EDM-PN: *; Text2: *; Reutech PN: *; SAAB PN: *; DCE Part No: *
footprint RESC0805X65N (Chip Resistor, 0805, 2-Leads, Body 2.0x1.3mm, IPC Medium Density)
pins: 1, 2

## 7K5_1206
designator R?, comment value 7K5  Tol: 1%  Text1: 1206  (hidden comment: 7K5_R1206_1%)
Resistor Chip SMD; Manufacturer: Various; Part Number: 7K5 1206 1%; Watt: 250mW; Package: RESC1206X71N; EDM-PN: *; Text2: *; Reutech PN: 5905-97-7501; SAAB PN: *; DCE Part No: *
footprint RESC1206X71N (Chip Resistor, 1206, 2-Leads, Body 3.2x1.6mm, IPC Medium Density)
pins: 1, 2

## 7K32_0402
designator R?, comment value 7K32  Tol: 1%  Text1: 0402  (hidden comment: 7K32_R0402_1%)
Resistor Chip SMD; Manufacturer: Various; Part Number: 7K32 0402 1%; Watt: 63mW; Package: RESC0402X40N; EDM-PN: *; Text2: *; Reutech PN: *; SAAB PN: *; DCE Part No: *
footprint RESC0402X40N (Chip Resistor, 0402, 2-Leads, Body 1.1x0.5mm, IPC Medium Density)
pins: 1, 2

## 7K32_0603
designator R?, comment value 7K32  Tol: 1%  Text1: 0603  (hidden comment: 7K32_R0603_1%)
Resistor Chip SMD; Manufacturer: Various; Part Number: 7K32 0603 1%; Watt: 100mW; Package: RESC0603X60N; EDM-PN: *; Text2: *; Reutech PN: *; SAAB PN: *; DCE Part No: *
footprint RESC0603X60N (Chip Resistor, 0603, 2-Leads, Body 1.6x0.8mm, IPC Medium Density)
pins: 1, 2

## 7K32_0805
designator R?, comment value 7K32  Tol: 1%  Text1: 0805  (hidden comment: 7K32_R0805_1%)
Resistor Chip SMD; Manufacturer: Various; Part Number: 7K32 0805 1%; Watt: 125mW; Package: RESC0805X65N; EDM-PN: *; Text2: *; Reutech PN: *; SAAB PN: *; DCE Part No: *
footprint RESC0805X65N (Chip Resistor, 0805, 2-Leads, Body 2.0x1.3mm, IPC Medium Density)
pins: 1, 2

## 7K87_0402
designator R?, comment value 7K87  Tol: 1%  Text1: 0402  (hidden comment: 7K87_R0402_1%)
Resistor Chip SMD; Manufacturer: Various; Part Number: 7K87 0402 1%; Watt: 63mW; Package: RESC0402X40N; EDM-PN: *; Text2: *; Reutech PN: *; SAAB PN: *; DCE Part No: *
footprint RESC0402X40N (Chip Resistor, 0402, 2-Leads, Body 1.1x0.5mm, IPC Medium Density)
pins: 1, 2

## 7K87_0603
designator R?, comment value 7K87  Tol: 1%  Text1: 0603  (hidden comment: 7K87_R0603_1%)
Resistor Chip SMD; Manufacturer: Various; Part Number: 7K87 0603 1%; Watt: 100mW; Package: RESC0603X60N; EDM-PN: *; Text2: *; Reutech PN: *; SAAB PN: *; DCE Part No: *
footprint RESC0603X60N (Chip Resistor, 0603, 2-Leads, Body 1.6x0.8mm, IPC Medium Density)
pins: 1, 2

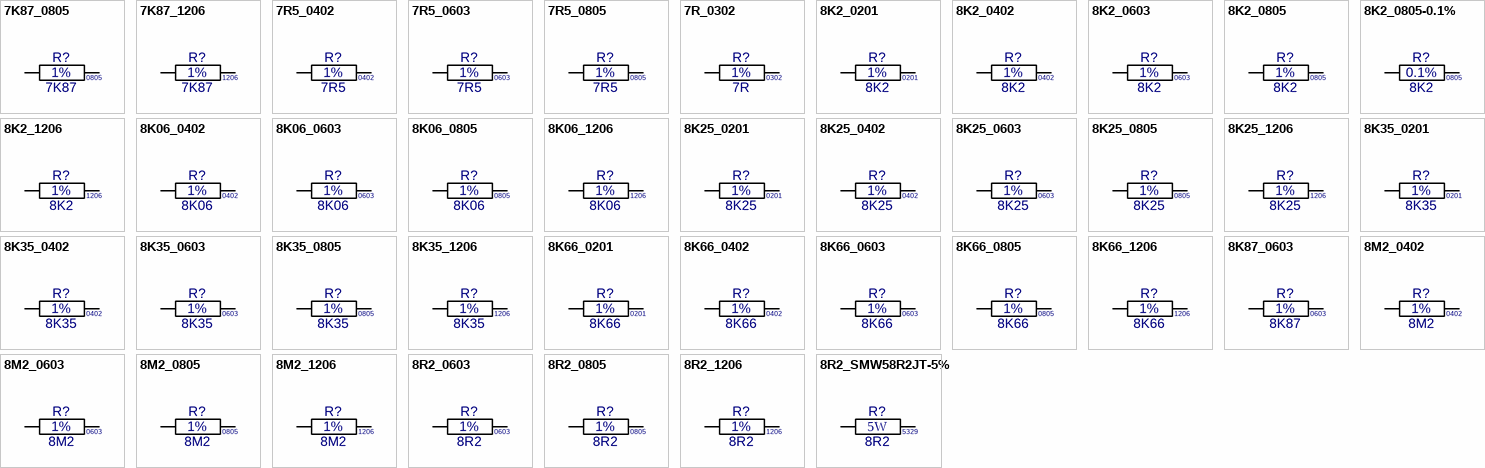
[diagram p19: symbols 7K87_0805 to 8R2_SMW58R2JT-5%]

## 7K87_0805
designator R?, comment value 7K87  Tol: 1%  Text1: 0805  (hidden comment: 7K87_R0805_1%)
Resistor Chip SMD; Manufacturer: Various; Part Number: 7K87 0805 1%; Watt: 125mW; Package: RESC0805X65N; EDM-PN: *; Text2: *; Reutech PN: *; SAAB PN: *; DCE Part No: *
footprint RESC0805X65N (Chip Resistor, 0805, 2-Leads, Body 2.0x1.3mm, IPC Medium Density)
pins: 1, 2

## 7K87_1206
designator R?, comment value 7K87  Tol: 1%  Text1: 1206  (hidden comment: 7K87_R1206_1%)
Resistor Chip SMD; Manufacturer: Various; Part Number: 7K87 1206 1%; Watt: 250mW; Package: RESC1206X71N; EDM-PN: *; Text2: *; Reutech PN: *; SAAB PN: *; DCE Part No: *
footprint RESC1206X71N (Chip Resistor, 1206, 2-Leads, Body 3.2x1.6mm, IPC Medium Density)
pins: 1, 2

## 7R5_0402
designator R?, comment value 7R5  Tol: 1%  Text1: 0402  (hidden comment: 7R5_R0402_1%)
Resistor Chip SMD; Manufacturer: Various; Part Number: 7R5 0402 1%; Watt: 63mW; Package: RESC0402X40N; EDM-PN: *; Text2: *; Reutech PN: *; SAAB PN: *; DCE Part No: *
footprint RESC0402X40N (Chip Resistor, 0402, 2-Leads, Body 1.1x0.5mm, IPC Medium Density)
pins: 1, 2

## 7R5_0603
designator R?, comment value 7R5  Tol: 1%  Text1: 0603  (hidden comment: 7R5_R0603_1%)
Resistor Chip SMD; Manufacturer: Various; Part Number: 7R5 0603 1%; Watt: 100mW; Package: RESC0603X60N; EDM-PN: *; Text2: *; Reutech PN: *; SAAB PN: *; DCE Part No: *
footprint RESC0603X60N (Chip Resistor, 0603, 2-Leads, Body 1.6x0.8mm, IPC Medium Density)
pins: 1, 2

## 7R5_0805
designator R?, comment value 7R5  Tol: 1%  Text1: 0805  (hidden comment: 7R5_R0805_1%)
Resistor Chip SMD; Manufacturer: Various; Part Number: 7R5 0805 1%; Watt: 125mW; Package: RESC0805X65N; EDM-PN: *; Text2: *; Reutech PN: *; SAAB PN: *; DCE Part No: *
footprint RESC0805X65N (Chip Resistor, 0805, 2-Leads, Body 2.0x1.3mm, IPC Medium Density)
pins: 1, 2

## 7R_0302
designator R?, comment value 7R  Tol: 1%  Text1: 0302  (hidden comment: 7R_R0302_1%)
Resistor Chip SMD; Manufacturer: Vishay; Part Number: EPIC1907NT; Watt: 50mW; Package: RESC0302X38N; EDM-PN: *; Text2: *; Reutech PN: *; SAAB PN: *; DCE Part No: *
footprint RESC0302X38N (Chip Resistor, 0302, 2-Leads, Body 0.97x0.5mm, IPC Medium Density)
pins: 1, 2

## 8K2_0201
designator R?, comment value 8K2  Tol: 1%  Text1: 0201  (hidden comment: 8K2_R0201_1%)
Resistor Chip SMD; Manufacturer: Various; Part Number: 8K2 0201 1%; Watt: 31mW; Package: RESC0201X33N; EDM-PN: *; Text2: *; Reutech PN: *; SAAB PN: *; DCE Part No: *
footprint RESC0201X33N (Chip Resistor, 0201, 2-Leads, Body 0.6x0.3mm, IPC Medium Density)
pins: 1, 2

## 8K2_0402
designator R?, comment value 8K2  Tol: 1%  Text1: 0402  (hidden comment: 8K2_R0402_1%)
Resistor Chip SMD; Manufacturer: Various; Part Number: 8K2 0402 1%; DCE Part No: 8715; Watt: 63mW; Package: RESC0402X40N; EDM-PN: *; Text2: *; Reutech PN: *; SAAB PN: *
footprint RESC0402X40N (Chip Resistor, 0402, 2-Leads, Body 1.1x0.5mm, IPC Medium Density)
pins: 1, 2

## 8K2_0603
designator R?, comment value 8K2  Tol: 1%  Text1: 0603  (hidden comment: 8K2_R0603_1%)
Resistor Chip SMD; Manufacturer: Various; Part Number: 8K2 0603 1%; Watt: 100mW; EDM-PN: RES239; Package: RESC0603X60N; Text2: *; Reutech PN: *; SAAB PN: *; DCE Part No: *
footprint RESC0603X60N (Chip Resistor, 0603, 2-Leads, Body 1.6x0.8mm, IPC Medium Density)
pins: 1, 2

## 8K2_0805
designator R?, comment value 8K2  Tol: 1%  Text1: 0805  (hidden comment: 8K2_R0805_1%)
Resistor Chip SMD; Manufacturer: Various; Part Number: 8K2 0805 1%; Watt: 125mW; EDM-PN: RES69; Package: RESC0805X65N; Text2: *; Reutech PN: *; SAAB PN: *; DCE Part No: *
footprint RESC0805X65N (Chip Resistor, 0805, 2-Leads, Body 2.0x1.3mm, IPC Medium Density)
pins: 1, 2

## 8K2_0805-0.1%
designator R?, comment value 8K2  Tol: 0.1%  Text1: 0805  (hidden comment: 8K2_R0805_0.1%)
Resistor Chip SMD; Manufacturer: Various; Part Number: 8K2 0805 0.1%; Watt: 125mW; Package: RESC0805X65N; EDM-PN: *; Text2: *; Reutech PN: *; SAAB PN: *; DCE Part No: *
footprint RESC0805X65N (Chip Resistor, 0805, 2-Leads, Body 2.0x1.3mm, IPC Medium Density)
pins: 1, 2

## 8K2_1206
designator R?, comment value 8K2  Tol: 1%  Text1: 1206  (hidden comment: 8K2_R1206_1%)
Resistor Chip SMD; Manufacturer: Various; Part Number: 8K2 1206 1%; Watt: 250mW; Package: RESC1206X71N; EDM-PN: *; Text2: *; Reutech PN: *; SAAB PN: *; DCE Part No: *
footprint RESC1206X71N (Chip Resistor, 1206, 2-Leads, Body 3.2x1.6mm, IPC Medium Density)
pins: 1, 2

## 8K06_0402
designator R?, comment value 8K06  Tol: 1%  Text1: 0402  (hidden comment: 8K06_R0402_1%)
Resistor Chip SMD; Manufacturer: Various; Part Number: 8K06 0402 1%; Watt: 63mW; Package: RESC0402X40N; EDM-PN: *; Text2: *; Reutech PN: *; SAAB PN: *; DCE Part No: *
footprint RESC0402X40N (Chip Resistor, 0402, 2-Leads, Body 1.1x0.5mm, IPC Medium Density)
pins: 1, 2

## 8K06_0603
designator R?, comment value 8K06  Tol: 1%  Text1: 0603  (hidden comment: 8K06_R0603_1%)
Resistor Chip SMD; Manufacturer: Various; Part Number: 8K06 0603 1%; Watt: 100mW; Package: RESC0603X60N; EDM-PN: *; Text2: *; Reutech PN: *; SAAB PN: *; DCE Part No: *
footprint RESC0603X60N (Chip Resistor, 0603, 2-Leads, Body 1.6x0.8mm, IPC Medium Density)
pins: 1, 2

## 8K06_0805
designator R?, comment value 8K06  Tol: 1%  Text1: 0805  (hidden comment: 8K06_R0805_1%)
Resistor Chip SMD; Manufacturer: Various; Part Number: 8K06 0805 1%; Watt: 125mW; Package: RESC0805X65N; EDM-PN: *; Text2: *; Reutech PN: *; SAAB PN: *; DCE Part No: *
footprint RESC0805X65N (Chip Resistor, 0805, 2-Leads, Body 2.0x1.3mm, IPC Medium Density)
pins: 1, 2

## 8K06_1206
designator R?, comment value 8K06  Tol: 1%  Text1: 1206  (hidden comment: 8K06_R1206_1%)
Resistor Chip SMD; Manufacturer: Various; Part Number: 8K06 1206 1%; Watt: 250mW; Package: RESC1206X71N; EDM-PN: *; Text2: *; Reutech PN: *; SAAB PN: *; DCE Part No: *
footprint RESC1206X71N (Chip Resistor, 1206, 2-Leads, Body 3.2x1.6mm, IPC Medium Density)
pins: 1, 2

## 8K25_0201
designator R?, comment value 8K25  Tol: 1%  Text1: 0201  (hidden comment: 8K25_R0201_1%)
Resistor Chip SMD; Manufacturer: Various; Part Number: 8K25 0201 1%; Watt: 31mW; Package: RESC0201X33N; EDM-PN: *; Text2: *; Reutech PN: *; SAAB PN: *; DCE Part No: *
footprint RESC0201X33N (Chip Resistor, 0201, 2-Leads, Body 0.6x0.3mm, IPC Medium Density)
pins: 1, 2

## 8K25_0402
designator R?, comment value 8K25  Tol: 1%  Text1: 0402  (hidden comment: 8K25_R0402_1%)
Resistor Chip SMD; Manufacturer: Various; Part Number: 8K25 0402 1%; Watt: 63mW; Package: RESC0402X40N; EDM-PN: *; Text2: *; Reutech PN: *; SAAB PN: *; DCE Part No: *
footprint RESC0402X40N (Chip Resistor, 0402, 2-Leads, Body 1.1x0.5mm, IPC Medium Density)
pins: 1, 2

## 8K25_0603
designator R?, comment value 8K25  Tol: 1%  Text1: 0603  (hidden comment: 8K25_R0603_1%)
Resistor Chip SMD; Manufacturer: Various; Part Number: 8K25 0603 1%; Watt: 100mW; Package: RESC0603X60N; EDM-PN: *; Text2: *; Reutech PN: *; SAAB PN: *; DCE Part No: *
footprint RESC0603X60N (Chip Resistor, 0603, 2-Leads, Body 1.6x0.8mm, IPC Medium Density)
pins: 1, 2

## 8K25_0805
designator R?, comment value 8K25  Tol: 1%  Text1: 0805  (hidden comment: 8K25_R0805_1%)
Resistor Chip SMD; Manufacturer: Various; Part Number: 8K25 0805 1%; Watt: 125mW; Package: RESC0805X65N; EDM-PN: *; Text2: *; Reutech PN: *; SAAB PN: *; DCE Part No: *
footprint RESC0805X65N (Chip Resistor, 0805, 2-Leads, Body 2.0x1.3mm, IPC Medium Density)
pins: 1, 2

## 8K25_1206
designator R?, comment value 8K25  Tol: 1%  Text1: 1206  (hidden comment: 8K25_R1206_1%)
Resistor Chip SMD; Manufacturer: Various; Part Number: 8K25 1206 1%; Watt: 250mW; Package: RESC1206X71N; EDM-PN: *; Text2: *; Reutech PN: *; SAAB PN: *; DCE Part No: *
footprint RESC1206X71N (Chip Resistor, 1206, 2-Leads, Body 3.2x1.6mm, IPC Medium Density)
pins: 1, 2

## 8K35_0201
designator R?, comment value 8K35  Tol: 1%  Text1: 0201  (hidden comment: 8K35_R0201_1%)
Resistor Chip SMD; Manufacturer: Various; Part Number: 8K35 0201 1%; Watt: 31mW; Package: RESC0201X33N; EDM-PN: *; Text2: *; Reutech PN: *; SAAB PN: *; DCE Part No: *
footprint RESC0201X33N (Chip Resistor, 0201, 2-Leads, Body 0.6x0.3mm, IPC Medium Density)
pins: 1, 2

## 8K35_0402
designator R?, comment value 8K35  Tol: 1%  Text1: 0402  (hidden comment: 8K35_R0402_1%)
Resistor Chip SMD; Manufacturer: Various; Part Number: 8K35 0402 1%; Watt: 63mW; Package: RESC0402X40N; EDM-PN: *; Text2: *; Reutech PN: *; SAAB PN: *; DCE Part No: *
footprint RESC0402X40N (Chip Resistor, 0402, 2-Leads, Body 1.1x0.5mm, IPC Medium Density)
pins: 1, 2

## 8K35_0603
designator R?, comment value 8K35  Tol: 1%  Text1: 0603  (hidden comment: 8K35_R0603_1%)
Resistor Chip SMD; Manufacturer: Various; Part Number: 8K35 0603 1%; Watt: 100mW; Package: RESC0603X60N; EDM-PN: *; Text2: *; Reutech PN: *; SAAB PN: *; DCE Part No: *
footprint RESC0603X60N (Chip Resistor, 0603, 2-Leads, Body 1.6x0.8mm, IPC Medium Density)
pins: 1, 2

## 8K35_0805
designator R?, comment value 8K35  Tol: 1%  Text1: 0805  (hidden comment: 8K35_R0805_1%)
Resistor Chip SMD; Manufacturer: Various; Part Number: 8K35 0805 1%; Watt: 125mW; Package: RESC0805X65N; EDM-PN: *; Text2: *; Reutech PN: *; SAAB PN: *; DCE Part No: *
footprint RESC0805X65N (Chip Resistor, 0805, 2-Leads, Body 2.0x1.3mm, IPC Medium Density)
pins: 1, 2

## 8K35_1206
designator R?, comment value 8K35  Tol: 1%  Text1: 1206  (hidden comment: 8K35_R1206_1%)
Resistor Chip SMD; Manufacturer: Various; Part Number: 8K35 1206 1%; Watt: 250mW; Package: RESC1206X71N; EDM-PN: *; Text2: *; Reutech PN: *; SAAB PN: *; DCE Part No: *
footprint RESC1206X71N (Chip Resistor, 1206, 2-Leads, Body 3.2x1.6mm, IPC Medium Density)
pins: 1, 2

## 8K66_0201
designator R?, comment value 8K66  Tol: 1%  Text1: 0201  (hidden comment: 8K66_R0201_1%)
Resistor Chip SMD; Manufacturer: Various; Part Number: 8K66 0201 1%; Watt: 31mW; Package: RESC0201X33N; EDM-PN: *; Text2: *; Reutech PN: *; SAAB PN: *; DCE Part No: *
footprint RESC0201X33N (Chip Resistor, 0201, 2-Leads, Body 0.6x0.3mm, IPC Medium Density)
pins: 1, 2

## 8K66_0402
designator R?, comment value 8K66  Tol: 1%  Text1: 0402  (hidden comment: 8K66_R0402_1%)
Resistor Chip SMD; Manufacturer: Various; Part Number: 8K66 0402 1%; Watt: 63mW; Package: RESC0402X40N; EDM-PN: *; Text2: *; Reutech PN: *; SAAB PN: *; DCE Part No: *
footprint RESC0402X40N (Chip Resistor, 0402, 2-Leads, Body 1.1x0.5mm, IPC Medium Density)
pins: 1, 2

## 8K66_0603
designator R?, comment value 8K66  Tol: 1%  Text1: 0603  (hidden comment: 8K66_R0603_1%)
Resistor Chip SMD; Manufacturer: Various; Part Number: 8K66 0603 1%; Watt: 100mW; Package: RESC0603X60N; EDM-PN: *; Text2: *; Reutech PN: *; SAAB PN: *; DCE Part No: *
footprint RESC0603X60N (Chip Resistor, 0603, 2-Leads, Body 1.6x0.8mm, IPC Medium Density)
pins: 1, 2

## 8K66_0805
designator R?, comment value 8K66  Tol: 1%  Text1: 0805  (hidden comment: 8K66_R0805_1%)
Resistor Chip SMD; Manufacturer: Various; Part Number: 8K66 0805 1%; Watt: 125mW; Package: RESC0805X65N; EDM-PN: *; Text2: *; Reutech PN: *; SAAB PN: *; DCE Part No: *
footprint RESC0805X65N (Chip Resistor, 0805, 2-Leads, Body 2.0x1.3mm, IPC Medium Density)
pins: 1, 2

## 8K66_1206
designator R?, comment value 8K66  Tol: 1%  Text1: 1206  (hidden comment: 8K25_R1206_1%)
Resistor Chip SMD; Manufacturer: Various; Part Number: 8K66 1206 1%; Watt: 250mW; Package: RESC1206X71N; EDM-PN: *; Text2: *; Reutech PN: *; SAAB PN: *; DCE Part No: *
footprint RESC1206X71N (Chip Resistor, 1206, 2-Leads, Body 3.2x1.6mm, IPC Medium Density)
pins: 1, 2

## 8K87_0603
designator R?, comment value 8K87  Tol: 1%  Text1: 0603  (hidden comment: 8K87_R0603_1%)
Resistor Chip SMD; Manufacturer: Various; Part Number: 8K87 0603 1%; Watt: 100mW; Package: RESC0603X60N; EDM-PN: *; Text2: *; Reutech PN: *; SAAB PN: *; DCE Part No: *
footprint RESC0603X60N (Chip Resistor, 0603, 2-Leads, Body 1.6x0.8mm, IPC Medium Density)
pins: 1, 2

## 8M2_0402
designator R?, comment value 8M2  Tol: 1%  Text1: 0402  (hidden comment: 8M2_R0402_1%)
Resistor Chip SMD; Manufacturer: Various; Part Number: 8M2 0402 1%; Watt: 63mW; Package: RESC0402X40N; EDM-PN: *; Text2: *; Reutech PN: *; SAAB PN: *; DCE Part No: *
footprint RESC0402X40N (Chip Resistor, 0402, 2-Leads, Body 1.1x0.5mm, IPC Medium Density)
pins: 1, 2

## 8M2_0603
designator R?, comment value 8M2  Tol: 1%  Text1: 0603  (hidden comment: 8M2_R0603_1%)
Resistor Chip SMD; Manufacturer: Various; Part Number: 8M2 0603 1%; Watt: 100mW; Package: RESC0603X60N; EDM-PN: *; Text2: *; Reutech PN: *; SAAB PN: *; DCE Part No: *
footprint RESC0603X60N (Chip Resistor, 0603, 2-Leads, Body 1.6x0.8mm, IPC Medium Density)
pins: 1, 2

## 8M2_0805
designator R?, comment value 8M2  Tol: 1%  Text1: 0805  (hidden comment: 8M2_R0805_1%)
Resistor Chip SMD; Manufacturer: Various; Part Number: 8M2 0805 1%; Watt: 125mW; Package: RESC0805X65N; EDM-PN: *; Text2: *; Reutech PN: *; SAAB PN: *; DCE Part No: *
footprint RESC0805X65N (Chip Resistor, 0805, 2-Leads, Body 2.0x1.3mm, IPC Medium Density)
pins: 1, 2

## 8M2_1206
designator R?, comment value 8M2  Tol: 1%  Text1: 1206  (hidden comment: 8M2_R1206_1%)
Resistor Chip SMD; Manufacturer: Various; Part Number: 8M2 1206 1%; Watt: 250mW; Package: RESC1206X71N; EDM-PN: *; Text2: *; Reutech PN: *; SAAB PN: *; DCE Part No: *
footprint RESC1206X71N (Chip Resistor, 1206, 2-Leads, Body 3.2x1.6mm, IPC Medium Density)
pins: 1, 2

## 8R2_0603
designator R?, comment value 8R2  Tol: 1%  Text1: 0603  (hidden comment: 8R2_R0603_1%)
Resistor Chip SMD; Manufacturer: Various; Part Number: 8R2 0603 1%; Watt: 100mW; Package: RESC0603X60N; EDM-PN: *; Text2: *; Reutech PN: *; SAAB PN: *; DCE Part No: *
footprint RESC0603X60N (Chip Resistor, 0603, 2-Leads, Body 1.6x0.8mm, IPC Medium Density)
pins: 1, 2

## 8R2_0805
designator R?, comment value 8R2  Tol: 1%  Text1: 0805  (hidden comment: 8R2_R0805_1%)
Resistor Chip SMD; Manufacturer: Various; Part Number: 8R2 0805 1%; Watt: 125mW; Package: RESC0805X65N; EDM-PN: *; Text2: *; Reutech PN: *; SAAB PN: *; DCE Part No: *
footprint RESC0805X65N (Chip Resistor, 0805, 2-Leads, Body 2.0x1.3mm, IPC Medium Density)
pins: 1, 2

## 8R2_1206
designator R?, comment value 8R2  Tol: 1%  Text1: 1206  (hidden comment: 8R2_R1206_1%)
Resistor Chip SMD; Manufacturer: Various; Part Number: 8R2 1206 1%; Watt: 250mW; Package: RESC1206X71N; EDM-PN: *; Text2: *; Reutech PN: *; SAAB PN: *; DCE Part No: *
footprint RESC1206X71N (Chip Resistor, 1206, 2-Leads, Body 3.2x1.6mm, IPC Medium Density)
pins: 1, 2

## 8R2_SMW58R2JT-5%
designator R?, comment value 8R2  Watt: 5W  Text1: 5329  (hidden comment: SMW58R2JT)
Resistor J-Lead Flame Retardant Coating, Safety Wirewound; Manufacturer: TE; Tol: 5%; Part Number: SMW58R2JT; Package: Res-SMW5; EDM-PN: *; Text2: *; Reutech PN: *; SAAB PN: *; DCE Part No: *
footprint Res-SMW5 (SMW5 13.5x7.3mm)
pins: 1, 2

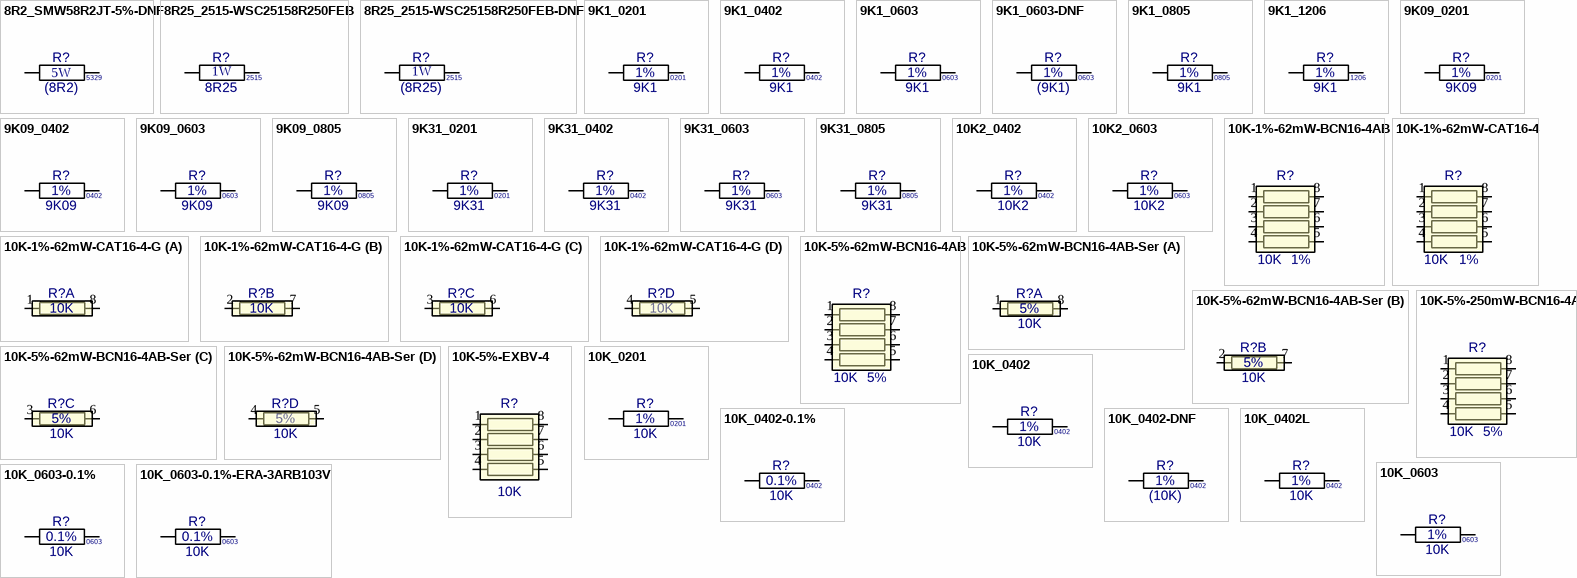
[diagram p20: symbols 8R2_SMW58R2JT-5%-DNF to 10K_0603-0.1%-ERA-3ARB103V]

## 8R2_SMW58R2JT-5%-DNF
designator R?, comment value (8R2)  Watt: 5W  Text1: 5329  (hidden comment: SMW58R2JT)
Resistor J-Lead Flame Retardant Coating, Safety Wirewound - DNF; Manufacturer: TE; Part Number: DNF - SMW58R2JT; Tol: 5%; Package: Res-SMW5; EDM-PN: *; Text2: *; Reutech PN: *; SAAB PN: *; DCE Part No: *
footprint Res-SMW5 (SMW5 13.5x7.3mm)
pins: 1, 2